# Altium schematic symbol library H1102NL.SchLib: 1 symbol
Pins are listed as number, name and electrical type; pins without a type are passive.

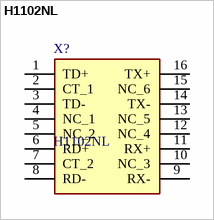
[diagram p0: symbol H1102NL]

## H1102NL
designator X?
PULSE ELECTRONICS - H1102NL - TRANSFORMER, 1:1, 1PORT, 100BASE-TX, SMT; Manufacturer_Name: Yageo Group; Geometry.Height: 5.97mm; Mouser Part Number: 673-H1102NL; Mouser Price/Stock: https://www.mouser.co.uk/ProductDetail/Pulse-Electronics/H1102NL?qs=EKu32SdDin%2FHU33L94JZxw%3D%3D; Manufacturer_Part_Number: H1102NL; Datasheet Link: https://productfinder.pulseeng.com/products/datasheets/h1102nl.pdf
footprint SOIC127P940X597-16N
pins: 1 TD+, 2 CT_1, 3 TD-, 4 NC_1, 5 NC_2, 6 RD+, 7 CT_2, 8 RD-, 9 RX-, 10 NC_3, 11 RX+, 12 NC_4, 13 NC_5, 14 TX-, 15 NC_6, 16 TX+